# Altium footprint library moteus_n1.PCBLIB: 34 footprints (part 3 of 3)
Each footprint in its own frame and in the unit in brackets; x right, y up, seen from the top. Pads: shape width x height; smd on the part's side, far side on the other; paste and mask are expansions set on the pad; w line width, h text height; cw(c..) or ccw(c..) is an arc to the next point about the centre after c.
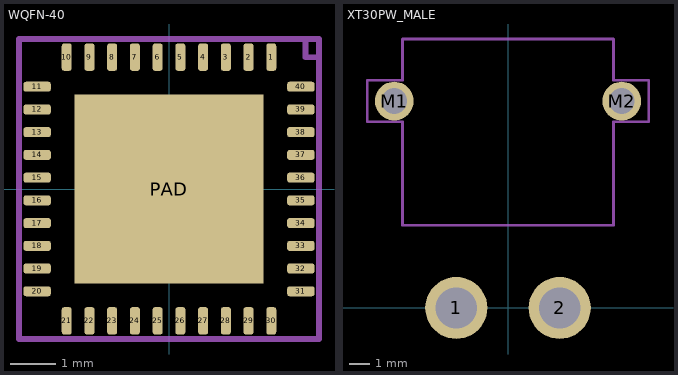
[diagram p2: the footprints below, top view; thin cyan lines are the x and y axes]

## WQFN-40 [mil]
pads (41):
  rrect50% 8.66x23.62 smd: 1(88.58,114.17) 2(68.9,114.17) 3(49.21,114.17) 4(29.53,114.17) 5(9.84,114.17) 6(-9.84,114.17) 7(-29.53,114.17) 8(-49.21,114.17) 9(-68.9,114.17) 10(-88.58,114.17) 21(-88.58,-114.17) 22(-68.9,-114.17) 23(-49.21,-114.17) 24(-29.53,-114.17) 25(-9.84,-114.17) 26(9.84,-114.17) 27(29.53,-114.17) 28(49.21,-114.17) 29(68.9,-114.17) 30(88.58,-114.17)
  rrect50% 23.62x8.66 smd: 11(-114.17,88.58) 12(-114.17,68.9) 13(-114.17,49.21) 14(-114.17,29.53) 15(-114.17,9.84) 16(-114.17,-9.84) 17(-114.17,-29.53) 18(-114.17,-49.21) 19(-114.17,-68.9) 20(-114.17,-88.58) 31(114.17,-88.58) 32(114.17,-68.9) 33(114.17,-49.21) 34(114.17,-29.53) 35(114.17,-9.84) 36(114.17,9.84) 37(114.17,29.53) 38(114.17,49.21) 39(114.17,68.9) 40(114.17,88.58)
  rect 163.39x163.39 smd paste+0: PAD(0,0)
Top Paste:
  region: -19.69,19.69 19.69,19.69 19.69,-19.69 -19.69,-19.69
  region: -74.8,74.8 -35.43,74.8 -35.43,39.37 -74.8,39.37
  region: -19.69,74.8 19.69,74.8 19.69,39.37 -19.69,39.37
  region: 35.43,74.8 74.8,74.8 74.8,39.37 35.43,39.37
  region: -74.8,19.69 -35.43,19.69 -35.43,-19.69 -74.8,-19.69 -74.8,15.75
  region: 35.43,19.69 74.8,19.69 74.8,-19.69 35.43,-19.69
  region: -74.8,-35.43 -35.43,-35.43 -35.43,-74.8 -74.8,-74.8
  region: -19.69,-35.43 19.69,-35.43 19.69,-74.8 -19.69,-74.8
  region: 35.43,-35.43 74.8,-35.43 74.8,-74.8 35.43,-74.8
tPlace:
  lines w5: 118.11,129.92 -129.92,129.92 -129.92,-129.92 129.92,-129.92 129.92,114.17 ; 118.11,129.92 129.92,129.92 129.92,114.17 ; 118.11,129.92 118.11,114.17 129.92,114.17

## XT30PW_MALE [mm]
pads (4):
  round 3 hole 2: 1(-2.5,0) 2(2.5,0)
  round 1.875 hole 1.25: M1(-5.5,10) M2(5.5,10)
tPlace:
  lines w0.127: -6.8,9 -6.8,11 -5.1,11 -5.1,13 5.1,13 5.1,11 6.8,11 6.8,9 5.1,9 5.1,4 -5.1,4 -5.1,9 -6.8,9